# Altium footprint library Packages SMD.PcbLib: 13 footprints
Each footprint in its own frame and in the unit in brackets; x right, y up, seen from the top. Pads: shape width x height; smd on the part's side, far side on the other; paste and mask are expansions set on the pad; w line width, h text height; cw(c..) or ccw(c..) is an arc to the next point about the centre after c.
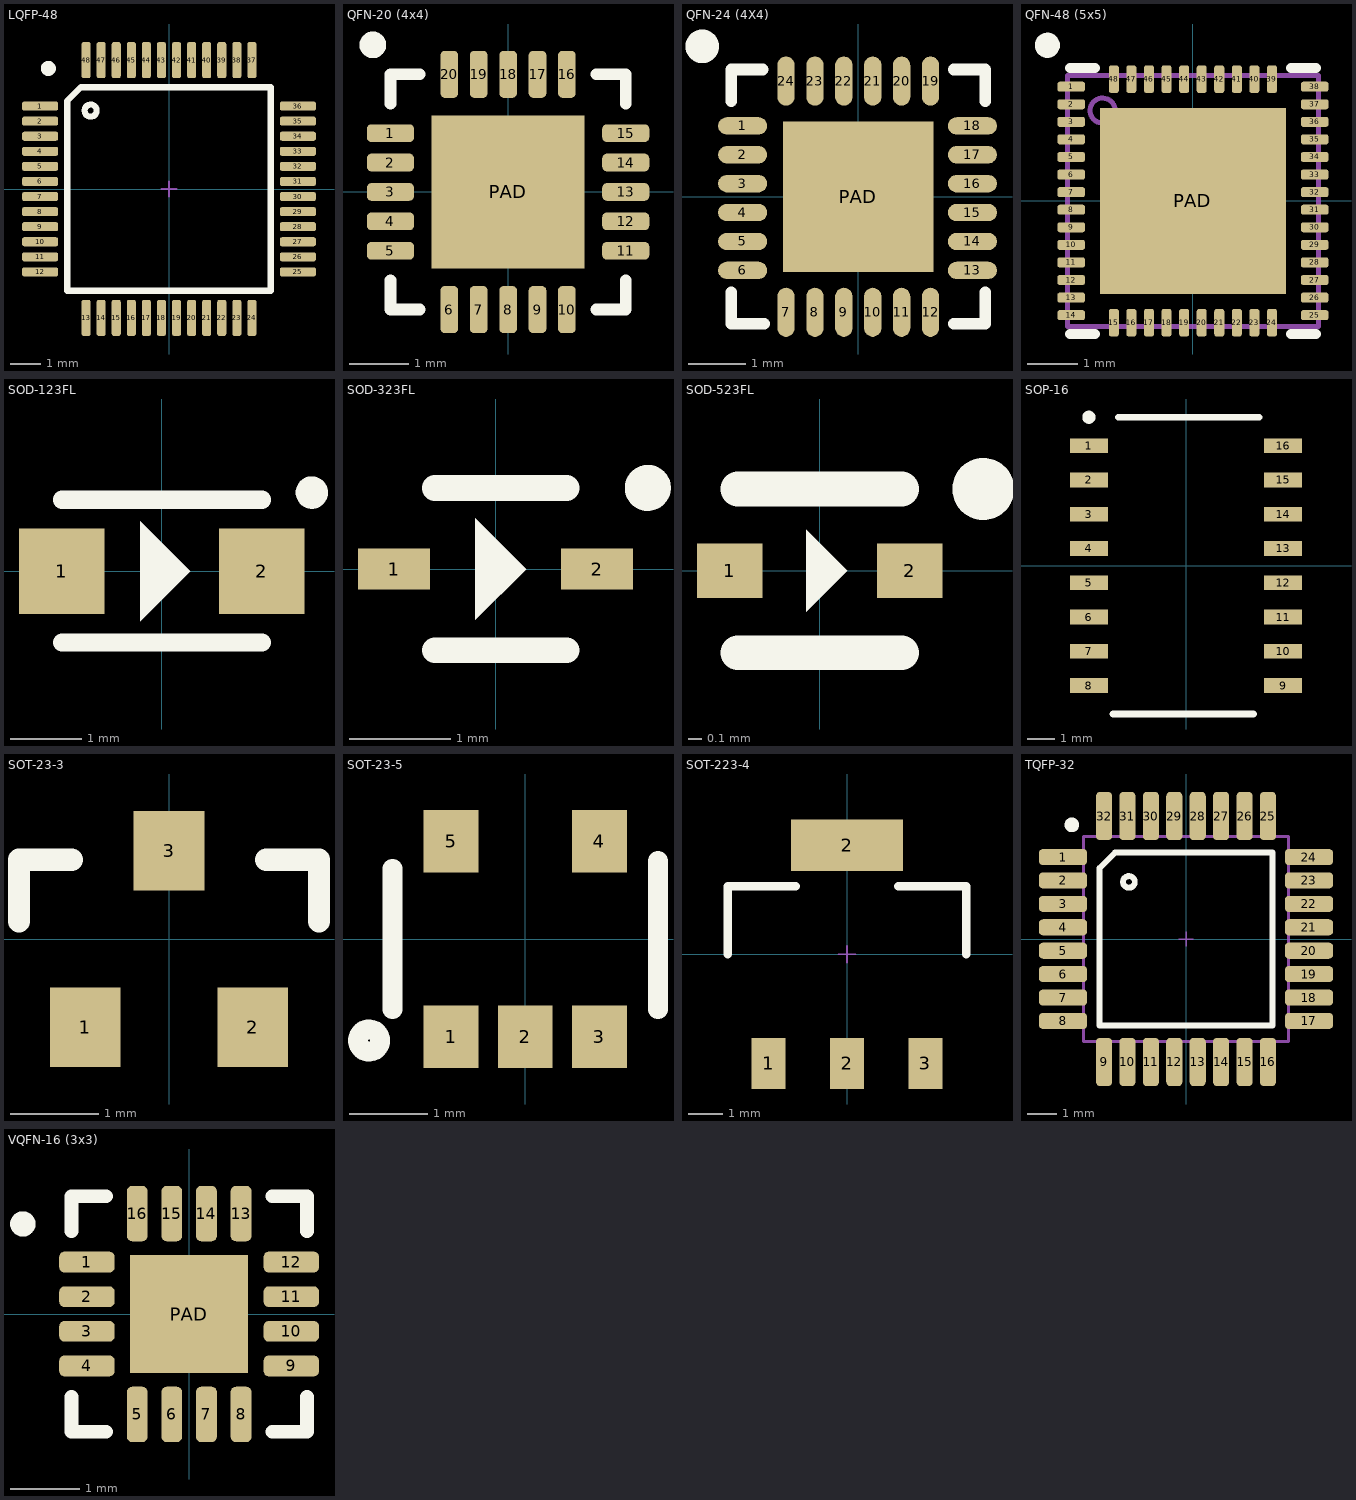
[diagram p0: the footprints below, top view; thin cyan lines are the x and y axes]

## LQFP-48 [mm]
height 2
pads (48):
  rrect50% 1.2x0.3 smd: 1(-4.275,2.75) 2(-4.275,2.25) 3(-4.275,1.75) 4(-4.275,1.25) 5(-4.275,0.75) 6(-4.275,0.25) 7(-4.275,-0.25) 8(-4.275,-0.75) 9(-4.275,-1.25) 10(-4.275,-1.75) 11(-4.275,-2.25) 12(-4.275,-2.75) 25(4.275,-2.75) 26(4.275,-2.25) 27(4.275,-1.75) 28(4.275,-1.25) 29(4.275,-0.75) 30(4.275,-0.25) 31(4.275,0.25) 32(4.275,0.75) 33(4.275,1.25) 34(4.275,1.75) 35(4.275,2.25) 36(4.275,2.75)
  rrect50% 0.3x1.2 smd: 13(-2.75,-4.275) 14(-2.25,-4.275) 15(-1.75,-4.275) 16(-1.25,-4.275) 17(-0.75,-4.275) 18(-0.25,-4.275) 19(0.25,-4.275) 20(0.75,-4.275) 21(1.25,-4.275) 22(1.75,-4.275) 23(2.25,-4.275) 24(2.75,-4.275) 37(2.75,4.275) 38(2.25,4.275) 39(1.75,4.275) 40(1.25,4.275) 41(0.75,4.275) 42(0.25,4.275) 43(-0.25,4.275) 44(-0.75,4.275) 45(-1.25,4.275) 46(-1.75,4.275) 47(-2.25,4.275) 48(-2.75,4.275)
Top Overlay:
  circle w0.25: c-4,4 r0.125
  circle w0.2: c-2.6,2.6 r0.2
  lines w0.2: -3.375,-3.375 -3.375,2.925 -2.925,3.375 3.375,3.375 3.375,-3.375 -3.375,-3.375
Top Solder:
  rectangle: -3,-4.975 3,-3.575
  rectangle: 3.575,-3 4.975,3
  rectangle: -3,3.575 3,4.975
  rectangle: -4.975,-3 -3.575,3
Mechanical 15:
  lines w0.05: -0.25,0 0.25,0 ; 0,-0.25 0,0.25
3D body "LQFP-48.step": height 1.6, standoff 0, extent -4.5,-4.5 4.5,4.5

## QFN-20 (4x4) [mm]
pads (21):
  rrect50% 0.8x0.3 smd: 1(-2,1) 2(-2,0.5) 3(-2,0) 4(-2,-0.5) 5(-2,-1) 11(2,-1) 12(2,-0.5) 13(2,0) 14(2,0.5) 15(2,1)
  rrect50% 0.3x0.8 smd: 6(-1,-2) 7(-0.5,-2) 8(0,-2) 9(0.5,-2) 10(1,-2) 16(1,2) 17(0.5,2) 18(0,2) 19(-0.5,2) 20(-1,2)
  rect 2.6x2.6 smd: PAD(0,0)
Top Overlay:
  circle w0.254: c-2.3,2.5 r0.1
  lines w0.2: -2,-1.5 -2,-2 -1.5,-2 ; -2,1.5 -2,2 -1.5,2 ; 1.5,-2 2,-2 2,-1.5 ; 1.5,2 2,2 2,1.5
Top Solder:
  rectangle: -1.25,1.5 1.25,2.5
  rectangle: 1.5,-1.25 2.5,1.275
  rectangle: -1.25,-2.5 1.25,-1.5
  rectangle: -2.503,-1.25 -1.5,1.249
Mechanical 15:
  lines w0.05: -0.25,0 0.25,0 ; 0,-0.25 0,0.25
3D body "QFN20_4x4.stp": height 0.75, standoff -0.01, extent -2,-2 2,2

## QFN-24 (4X4) [mm]
pads (25):
  oval 0.85x0.3 smd: 1(-2,1.225) 2(-2,0.725) 3(-2,0.225) 4(-2,-0.275) 5(-2,-0.775) 6(-2,-1.275) 13(1.975,-1.275) 14(1.975,-0.775) 15(1.975,-0.275) 16(1.975,0.225) 17(1.975,0.725) 18(1.975,1.225)
  oval 0.3x0.85 smd: 7(-1.25,-2) 8(-0.75,-2) 9(-0.25,-2) 10(0.25,-2) 11(0.75,-2) 12(1.25,-2) 19(1.25,2) 20(0.75,2) 21(0.25,2) 22(-0.25,2) 23(-0.75,2) 24(-1.25,2)
  rect 2.6x2.6 smd: PAD(0,0)
Top Overlay:
  circle w0.4: c-2.7,2.6 r0.09
  lines w0.2: -2.2,-1.65 -2.2,-2.2 -1.625,-2.2 ; -2.2,1.65 -2.2,2.2 -1.65,2.2 ; 1.65,-2.2 2.2,-2.2 2.2,-1.65 ; 1.65,2.2 2.2,2.2 2.2,1.65
3D body "QFN 24 4x4.step": height 0.9, standoff 0, extent -2.002,-2.002 2.002,2.002

## QFN-48 (5x5) [mm]
height 2
pads (49):
  rrect50% 0.55x0.2 smd paste-0.125 mask+0.051: 1(-2.425,2.275) 2(-2.425,1.925) 3(-2.425,1.575) 4(-2.425,1.225) 5(-2.425,0.875) 6(-2.425,0.525) 7(-2.425,0.175) 8(-2.425,-0.175) 9(-2.425,-0.525) 10(-2.425,-0.875) 11(-2.425,-1.225) 12(-2.425,-1.575) 13(-2.425,-1.925) 14(-2.425,-2.275) 25(2.425,-2.275) 26(2.425,-1.925) 27(2.425,-1.575) 28(2.425,-1.225) 29(2.425,-0.875) 30(2.425,-0.525) 31(2.425,-0.175) 32(2.425,0.175) 33(2.425,0.525) 34(2.425,0.875) 35(2.425,1.225) 36(2.425,1.575) 37(2.425,1.925) 38(2.425,2.275)
  rrect50% 0.2x0.55 smd paste-0.125 mask+0.051: 15(-1.575,-2.425) 16(-1.225,-2.425) 17(-0.875,-2.425) 18(-0.525,-2.425) 19(-0.175,-2.425) 20(0.175,-2.425) 21(0.525,-2.425) 22(0.875,-2.425) 23(1.225,-2.425) 24(1.575,-2.425) 39(1.575,2.425) 40(1.225,2.425) 41(0.875,2.425) 42(0.525,2.425) 43(0.175,2.425) 44(-0.175,2.425) 45(-0.525,2.425) 46(-0.875,2.425) 47(-1.225,2.425) 48(-1.575,2.425)
  rect 3.7x3.7 smd paste-1.8 mask+0.051: PAD(0,0)
Top Overlay:
  circle w0.25: c-2.9,3.1 r0.125
  lines w0.2: -2.45,-2.65 -1.95,-2.65 ; -2.45,2.65 -1.95,2.65 ; 1.95,-2.65 2.45,-2.65 ; 1.95,2.65 2.45,2.65
Top Solder:
  rectangle: -2.75,-2.425 -2.1,2.425
  rectangle: -1.725,-2.75 1.725,-2.1
  rectangle: 2.1,-2.425 2.75,2.425
  rectangle: -1.725,2.1 1.725,2.75
Mechanical 13:
  circle w0.1: c-1.8,1.8 r0.25
  lines w0.1: -2.5,-2.5 2.5,-2.5 2.5,2.5 -2.5,2.5 -2.5,-2.5
Mechanical 15:
  lines w0.05: -0.25,0 0.25,0 ; 0,-0.25 0,0.25
3D body "QFN-48 (5x5).step": height 0.55, standoff -0.02, extent -2.51,-2.51 2.51,2.51

## SOD-123FL [mm]
pads (2):
  rect 1.2x1.2 smd: 1(-1.4,0) 2(1.4,0)
Top Overlay:
  circle w0.254: c2.1,1.1 r0.1
  region: -0.3,0.7 -0.3,-0.7 0.4,0
  lines w0.254: -1.4,-1 1.4,-1 ; -1.4,1 1.4,1
3D body "SOD-123FL.stp": height 1.1, standoff 0, extent -1.9,-0.8 1.9,0.8

## SOD-323FL [mm]
pads (2):
  rect 0.71x0.403 smd: 1(-1,0) 2(1,0)
Top Overlay:
  circle w0.254: c1.5,0.8 r0.1
  region: -0.2,0.5 -0.2,-0.5 0.3,0
  lines w0.254: -0.6,-0.8 0.7,-0.8 ; -0.6,0.8 0.7,0.8
3D body "SOD-323FL.stp": height 0.67, standoff 0, extent -1.25,-0.625 1.25,0.625

## SOD-523FL [mm]
pads (2):
  rect 0.48x0.4 smd: 1(-0.66,0) 2(0.66,0)
Top Overlay:
  circle w0.254: c1.2,0.6 r0.1
  region: -0.1,0.3 -0.1,-0.3 0.2,0
  lines w0.254: -0.6,-0.6 0.6,-0.6 ; -0.6,0.6 0.6,0.6
3D body "SOD-523FL.stp": height 0.6, standoff 0, extent -0.8,-0.4 0.8,0.4

## SOP-16 [mm]
pads (16):
  rect 1.4x0.55 smd: 1(-3.6,4.445) 2(-3.6,3.175) 3(-3.6,1.905) 4(-3.6,0.635) 5(-3.6,-0.635) 6(-3.6,-1.905) 7(-3.6,-3.175) 8(-3.6,-4.445) 9(3.6,-4.445) 10(3.6,-3.175) 11(3.6,-1.905) 12(3.6,-0.635) 13(3.6,0.635) 14(3.6,1.905) 15(3.6,3.175) 16(3.6,4.445)
Top Overlay:
  circle w0.25: c-3.6,5.5 r0.12
  lines w0.254: -2.7,-5.5 2.5,-5.5 ; -2.5,5.5 2.7,5.5
3D body "SOP16.stp": height 1.6, standoff 0, extent -3.9,-5.4 3.9,5.4

## SOT-23-3 [mm]
pads (3):
  rect 0.8x0.9 smd: 1(-0.95,-1) 2(0.95,-1) 3(0,1)
Top Overlay:
  lines w0.254: -1.7,0.2 -1.7,0.9 -1.1,0.9 ; 1.1,0.9 1.7,0.9 1.7,0.2
3D body "CircuitWorks-SOT-23.step": height 1.1, standoff 0, extent -1.5,-1.25 1.5,1.25

## SOT-23-5 [mm]
pads (5):
  rect 0.7x0.8 smd: 1(-0.95,-1.25) 2(0,-1.25) 3(0.95,-1.25) 4(0.95,1.25) 5(-0.95,1.25)
Top Overlay:
  circle w0.254: c-2,-1.3 r0.141
  lines w0.254: -1.7,-0.9 -1.7,0.9 ; 1.7,-0.9 1.7,1
3D body "User Library-SOT23-5-1.step": height 1.3, standoff 0, extent -1.5,-1.5 1.5,1.5

## SOT-223-4 [mm]
pads (4):
  rect 1x1.5 smd: 1(-2.3,-3.2) 2(0,-3.2) 3(2.3,-3.2)
  rect 3.3x1.5 smd: 2(0,3.2)
Top Overlay:
  lines w0.254: -3.5,0 -3.5,2 -1.5,2 ; 1.5,2 3.5,2 3.5,0
Mechanical 15:
  lines w0.05: -0.25,0 0.25,0 ; 0,-0.25 0,0.25
3D body "SOT-223-4.stp": height 1.65, standoff 0, extent -3.25,-3.543 3.25,3.543

## TQFP-32 [mm] "Thin QFP, 32-Leads, Body 7x7mm, Pitch 0.8mm, IPC Medium Density"
height 1.2
pads (32):
  rrect50% 1.65x0.55 smd: 1(-4.2,2.8) 2(-4.2,2) 3(-4.2,1.2) 4(-4.2,0.4) 5(-4.2,-0.4) 6(-4.2,-1.2) 7(-4.2,-2) 8(-4.2,-2.8) 17(4.2,-2.8) 18(4.2,-2) 19(4.2,-1.2) 20(4.2,-0.4) 21(4.2,0.4) 22(4.2,1.2) 23(4.2,2) 24(4.2,2.8)
  rrect50% 0.55x1.65 smd: 9(-2.8,-4.2) 10(-2,-4.2) 11(-1.2,-4.2) 12(-0.4,-4.2) 13(0.4,-4.2) 14(1.2,-4.2) 15(2,-4.2) 16(2.8,-4.2) 25(2.8,4.2) 26(2,4.2) 27(1.2,4.2) 28(0.4,4.2) 29(-0.4,4.2) 30(-1.2,4.2) 31(-2,4.2) 32(-2.8,4.2)
Top Overlay:
  circle w0.25: c-3.9,3.9 r0.125
  circle w0.2: c-1.95,1.95 r0.2
  lines w0.2: -2.95,-2.95 2.95,-2.95 2.95,2.95 -2.425,2.95 -2.95,2.425 -2.95,-2.95
Top Solder:
  rectangle: -5.125,-3.175 -3.275,3.175
  rectangle: -3.175,-5.125 3.175,-3.275
  rectangle: 3.275,-3.175 5.125,3.175
  rectangle: -3.175,3.275 3.2,5.125
Mechanical 13:
  lines w0.1: -3.5,-3.5 -3.5,3.5 3.5,3.5 3.5,-3.5 -3.5,-3.5
Mechanical 15:
  lines w0.05: -0.25,0 0.25,0 ; 0,-0.25 0,0.25
3D body "User Library-TQFP-32.STEP": height 1.45, standoff -0.01, extent -4.5,-4.5 4.5,4.5

## VQFN-16 (3x3) [mm]
pads (17):
  rrect50% 0.8x0.3 smd: 1(-1.475,0.75) 2(-1.475,0.25) 3(-1.475,-0.25) 4(-1.475,-0.75) 9(1.475,-0.75) 10(1.475,-0.25) 11(1.475,0.25) 12(1.475,0.75)
  rrect50% 0.3x0.8 smd: 5(-0.75,-1.45) 6(-0.25,-1.45) 7(0.25,-1.45) 8(0.75,-1.45) 13(0.75,1.45) 14(0.25,1.45) 15(-0.25,1.45) 16(-0.75,1.45)
  rect 1.7x1.7 smd: PAD(0,0)
Top Overlay:
  circle w0.254: c-2.4,1.3 r0.056
  lines w0.2: -1.7,-1.2 -1.7,-1.7 -1.2,-1.7 ; -1.7,1.2 -1.7,1.7 -1.2,1.7 ; 1.2,-1.7 1.7,-1.7 1.7,-1.2 ; 1.2,1.7 1.7,1.7 1.7,1.2
3D body "User Library-16VQFN3x3.STEP": height 0.97, standoff 0, extent -1.51,-1.51 1.51,1.51